# Altium footprint library ROCOS-FOC_V2.0.PcbLib: 17 footprints (part 1 of 2)
Each footprint in its own frame and in the unit in brackets; x right, y up, seen from the top. Pads: shape width x height; smd on the part's side, far side on the other; paste and mask are expansions set on the pad; w line width, h text height; cw(c..) or ccw(c..) is an arc to the next point about the centre after c.
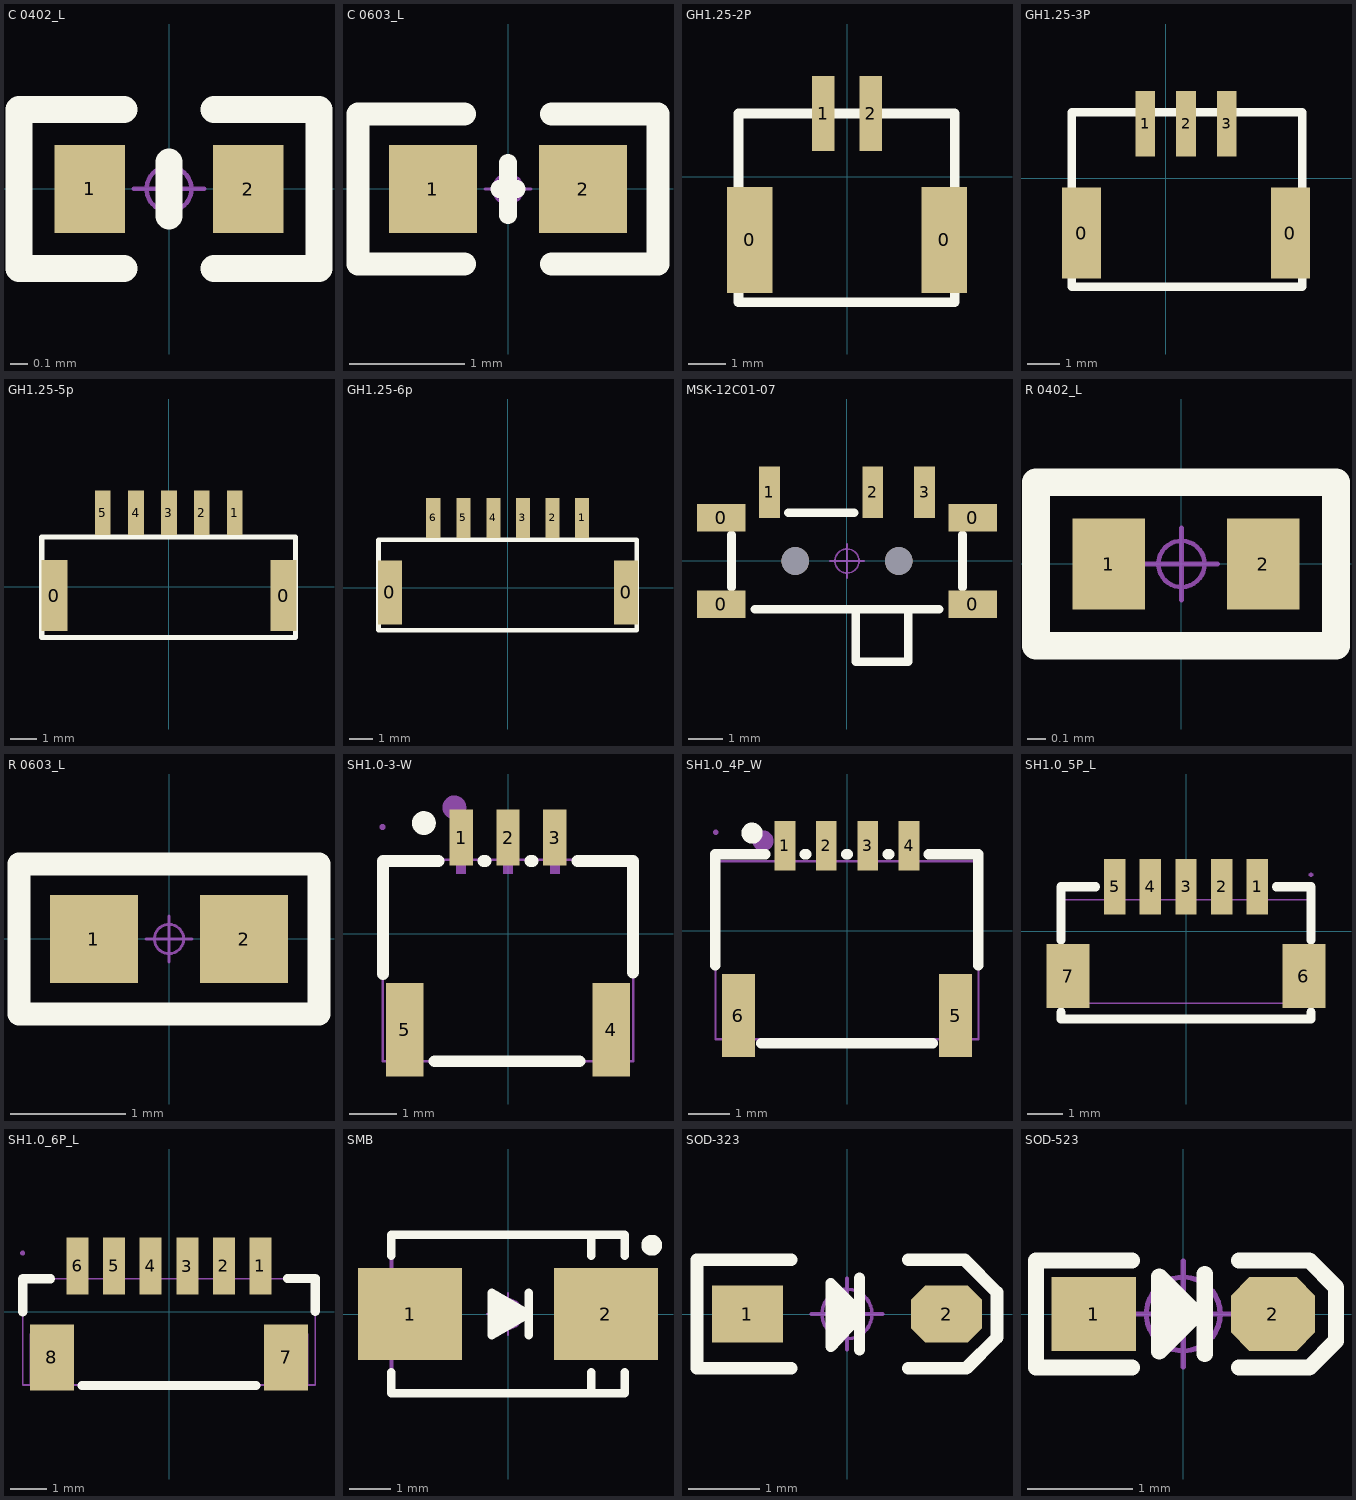
[diagram p0: the footprints below, top view; thin cyan lines are the x and y axes]

## C 0402_L [mm] "无极性贴片电容"
pads (2):
  rect 0.4x0.5 smd: 1(-0.45,0) 2(0.45,0)
Top Overlay:
  lines w0.152: -0.254,-0.45 -0.85,-0.45 ; -0.254,0.45 -0.85,0.45 -0.85,-0.45 ; 0,-0.152 0,0.152 ; 0.254,-0.45 0.85,-0.45 0.85,0.45 0.254,0.45 ; -0.85,-0.45 -0.85,-0.45
Mechanical 15:
  circle w0.025: c0,0 r0.127
  lines w0.025: -0.2,0 0.2,0 ; 0,-0.2 0,0.2
3D body "C 0402.STEP": height 0.53, standoff 0.01, extent -0.5,-0.26 0.5,0.26

## C 0603_L [mil] "无极性贴片电容"
pads (2):
  rect 30x30 smd: 1(-25.59,0) 2(25.59,0)
Top Overlay:
  lines w6: -3,0 0,0 3,0 ; 0,-9 0,9
  lines w8: -15,-25.59 -51.18,-25.59 -51.18,25.59 -15,25.59 ; 15,-25.59 51.18,-25.59 51.18,25.59 15,25.59
Mechanical 15:
  circle w1: c0,0 r5
  lines w1: -7.87,0 7.87,0 ; 0,-7.87 0,7.87
3D body "C 0603.STEP": height 31.89, standoff -0.39, extent -31.5,-16.14 31.5,16.14

## GH1.25-2P [mm]
pads (4):
  rect 1.2x2.8 smd: 0(-2.575,-1.675) 0(2.575,-1.675)
  rect 0.6x2 smd: 1(-0.625,1.675) 2(0.625,1.675)
Top Overlay:
  lines w0.254: -2.875,-3.326 2.857,-3.326 2.857,1.675 -2.875,1.675 -2.875,-3.326
3D body: height 5, standoff 0, extent -2.921,-3.429 2.921,0.254

## GH1.25-3P [mm]
pads (5):
  rect 1.2x2.8 smd: 0(-2.575,-1.675) 0(3.825,-1.675)
  rect 0.6x2 smd: 1(-0.625,1.675) 2(0.625,1.675) 3(1.875,1.675)
Top Overlay:
  lines w0.254: -2.875,-3.326 4.191,-3.326 4.191,2.032 -2.875,2.032 -2.875,-3.326
3D body: height 5, standoff 0, extent -2.921,-3.302 4.318,0.127

## GH1.25-5p [mm]
height 2.65
pads (7):
  rect 1x2.7 smd: 0(-4.343,-0.33) 0(4.369,-0.33)
  rect 0.6x1.7 smd: 1(2.511,2.819) 2(1.261,2.819) 3(0.011,2.819) 4(-1.239,2.819) 5(-2.509,2.819)
Top Overlay:
  lines w0.2: -4.826,-1.93 4.826,-1.93 4.826,1.9 -4.826,1.9 -4.826,-1.93

## GH1.25-6p [mm]
height 2.65
pads (8):
  rect 1x2.7 smd: 0(-4.978,-0.203) 0(5.004,-0.203)
  rect 0.6x1.7 smd: 1(3.146,2.946) 2(1.896,2.946) 3(0.646,2.946) 4(-0.604,2.946) 5(-1.874,2.946) 6(-3.144,2.946)
Top Overlay:
  lines w0.2: -4.191,-1.803 5.461,-1.803 5.461,2.027 -4.191,2.027 ; 4.191,-1.803 -5.461,-1.803 -5.461,2.027 4.191,2.027

## MSK-12C01-07 [mm] "6.7*2.8*1.5mm(长宽高）"
pads (9):
  rect 1.4x0.8 smd: 0(-3.65,-1.25) 0(-3.65,1.25) 0(3.65,1.25) 0(3.65,-1.25)
  rect 0.6x1.5 smd: 1(-2.25,1.996) 2(0.75,1.996) 3(2.25,1.996)
  round 0.8 hole 0.8: " "(-1.5,0) " "(1.5,0)
Top Overlay:
  lines w0.254: -3.35,-0.762 -3.35,0.762 ; -2.667,-1.397 2.667,-1.397 ; -1.699,1.397 0.206,1.397 ; 0.254,-1.4 0.254,-2.921 1.778,-2.921 1.778,-1.4 ; 3.35,-0.762 3.35,0.762
Mechanical 15:
  circle w0.05: c0,0 r0.35
  lines w0.05: -0.5,0 0.5,0 ; 0,-0.5 0,0.5
3D body "MSK-12C01-07.STEP": height 1.5, standoff -0.5, extent -3.92,-2.9 3.92,2.4

## R 0402_L [mm] "1/16W贴片电阻"
pads (2):
  rect 0.4x0.5 smd: 1(-0.4,0) 2(0.45,0)
Top Overlay:
  lines w0.152: -0.8,-0.45 0.85,-0.45 0.85,0.45 -0.8,0.45 -0.8,-0.45
Mechanical 15:
  circle w0.025: c0,0 r0.127
  lines w0.025: -0.2,0 0.2,0 ; 0,-0.2 0,0.2
3D body "R 0402.STEP": height 0.3, standoff 0, extent -0.5,-0.25 0.5,0.25

## R 0603_L [mil] "1/10W贴片电阻"
pads (2):
  rect 30x30 smd: 1(-25.59,0) 2(25.59,0)
Top Overlay:
  lines w8: -51.18,-25.59 51.18,-25.59 51.18,25.59 -51.18,25.59 -51.18,-25.59
Mechanical 15:
  circle w1: c0,0 r5
  lines w1: -7.87,0 7.87,0 ; 0,-7.87 0,7.87
3D body "R 0603.STEP": height 15.79, standoff -0.13, extent -31.49,-15.74 31.5,15.75

## SH1.0-3-W [mm]
pads (5):
  rect 0.5x1.2 smd mask+0.05: 1(-1,2.05) 2(0,2.05) 3(1,2.05)
  rect 0.8x2 smd mask+0.05: 4(2.2,-2.05) 5(-2.2,-2.05)
Top Overlay:
  circle w0.254: c-1.794,2.358 r0.127
  lines w0.254: -2.667,-0.862 -2.667,1.551 -1.481,1.551 ; -1.569,-2.722 1.524,-2.722 ; -0.519,1.551 -0.481,1.551 ; 0.481,1.551 0.519,1.551 ; 1.481,1.551 2.667,1.551 2.667,-0.829
Mechanical 6:
  circle w0.254: c-1.143,2.694 r0.127
Mechanical 15:
  region: 0.9,2.278 1.1,2.278 1.1,1.278 0.9,1.278
  region: -0.1,2.278 0.1,2.278 0.1,1.278 -0.1,1.278
  region: -1.1,2.278 -0.9,2.278 -0.9,1.278 -1.1,1.278
  region: 2.05,-1.45 2.35,-1.45 2.35,-2.65 2.05,-2.65
  region: -2.35,-1.45 -2.05,-1.45 -2.05,-2.65 -2.35,-2.65
  region: -2.615,2.278 -2.615,2.303 -2.65,2.338 -2.7,2.338 -2.735,2.303 -2.735,2.278 -2.735,2.253 -2.7,2.218 -2.65,2.218 -2.615,2.253
  lines w0.051: -2.675,-2.722 2.675,-2.722 2.675,1.578 -2.675,1.578 -2.675,-2.722

## SH1.0_4P_W [mm]
pads (6):
  rect 0.5x1.2 smd mask+0.05: 1(-1.5,2.05) 2(-0.5,2.05) 3(0.5,2.05) 4(1.5,2.05)
  rect 0.8x2 smd mask+0.05: 5(2.625,-2.05) 6(-2.625,-2.05)
Top Overlay:
  circle w0.254: c-2.294,2.358 r0.127
  lines w0.254: -3.183,-0.834 -3.183,1.85 -1.981,1.85 ; -2.069,-2.722 2.069,-2.722 ; -1.019,1.85 -0.981,1.85 ; -0.019,1.85 0.019,1.85 ; 0.981,1.85 1.019,1.85 ; 1.981,1.85 3.167,1.85 3.167,-0.829
Mechanical 6:
  circle w0.254: c-2.03,2.17 r0.127
Mechanical 15:
  region: -3.115,2.378 -3.115,2.403 -3.15,2.438 -3.2,2.438 -3.235,2.403 -3.235,2.378 -3.235,2.353 -3.2,2.318 -3.15,2.318 -3.115,2.353
  region: 1.4,2.378 1.6,2.378 1.6,1.578 1.4,1.578
  region: 0.4,2.378 0.6,2.378 0.6,1.578 0.4,1.578
  region: -0.6,2.378 -0.4,2.378 -0.4,1.578 -0.6,1.578
  region: -1.6,2.378 -1.4,2.378 -1.4,1.578 -1.6,1.578
  region: 2.525,-1.622 2.725,-1.622 2.725,-2.622 2.525,-2.622
  region: -2.725,-1.622 -2.525,-1.622 -2.525,-2.622 -2.725,-2.622
  lines w0.051: -3.175,-2.622 -3.175,1.678 3.175,1.678 3.175,-2.622 -3.175,-2.622

## SH1.0_5P_L [mm]
pads (7):
  rect 0.6x1.55 smd mask+0.051: 1(2,1.25) 2(1,1.25) 3(0,1.25) 4(-1,1.25) 5(-2,1.25)
  rect 1.2x1.8 smd mask+0.051: 6(3.3,-1.25) 7(-3.3,-1.25)
Top Overlay:
  lines w0.254: -3.5,-2.263 -3.5,-2.45 3.5,-2.45 3.5,-2.263 ; -3.5,-0.237 -3.5,1.25 -2.531,1.25 ; 2.531,1.25 3.5,1.25 3.5,-0.237
Mechanical 15:
  region: 3.56,1.587 3.56,1.612 3.525,1.647 3.475,1.647 3.44,1.612 3.44,1.587 3.44,1.562 3.475,1.527 3.525,1.527 3.56,1.562
  region: -2.1,1.587 -1.9,1.587 -1.9,0.787 -2.1,0.787
  region: -1.1,1.587 -0.9,1.587 -0.9,0.787 -1.1,0.787
  region: -0.1,1.587 0.1,1.587 0.1,0.787 -0.1,0.787
  region: 0.9,1.587 1.1,1.587 1.1,0.787 0.9,0.787
  region: 1.9,1.587 2.1,1.587 2.1,0.787 1.9,0.787
  region: -3.2,-0.55 -2.9,-0.55 -2.9,-1.95 -3.2,-1.95
  region: 2.85,-0.55 3.15,-0.55 3.15,-1.95 2.85,-1.95
  lines w0.051: -3.5,-2.014 -3.5,0.886 3.5,0.886 3.5,-2.014 -3.5,-2.014

## SH1.0_6P_L [mm]
pads (8):
  rect 0.6x1.55 smd mask+0.051: 1(2.499,1.251) 2(1.499,1.251) 3(0.501,1.249) 4(-0.501,1.251) 5(-1.501,1.251) 6(-2.501,1.251)
  rect 1.2x1.8 smd mask+0.051: 7(3.201,-1.251) 8(-3.201,-1.251)
Top Overlay:
  lines w0.254: -4,0 -4,0.9 -3.24,0.9 ; -2.38,-2.02 2.38,-2.02 ; 3.241,0.911 4.001,0.911 4.001,0.011
Mechanical 15:
  region: -3.801,-0.6 -3.001,-0.6 -3.001,-2 -3.801,-2
  region: 3.001,-0.6 3.801,-0.6 3.801,-2 3.001,-2
  region: 2.399,1.6 2.599,1.6 2.599,0.85 2.399,0.85
  region: 1.399,1.6 1.599,1.6 1.599,0.85 1.399,0.85
  region: 0.401,1.6 0.601,1.6 0.601,0.85 0.401,0.85
  region: -0.601,1.6 -0.401,1.6 -0.401,0.85 -0.601,0.85
  region: -1.601,1.6 -1.401,1.6 -1.401,0.85 -1.601,0.85
  region: -2.601,1.6 -2.401,1.6 -2.401,0.85 -2.601,0.85
  region: -3.94,1.6 -3.94,1.625 -3.975,1.66 -4.025,1.66 -4.06,1.625 -4.06,1.6 -4.06,1.575 -4.025,1.54 -3.975,1.54 -3.94,1.575
  lines w0.051: -4,-2 -4,0.9 4,0.9 4,-2 -4,-2

## SMB [mm] "4.7*3.9*2.2mm(长宽高，不包括引脚）"
height 2.4
pads (2):
  rect 2.5x2.2 smd: 1(-2.35,0) 2(2.35,0)
Top Overlay:
  circle w0.25: c3.45,1.65 r0.125
  lines w0.2: -2.8,-1.4 -2.8,-1.9 2.8,-1.9 2.8,-1.4 ; -2.8,1.4 -2.8,1.9 2.8,1.9 2.8,1.4 ; 2,-1.9 2,-1.4 ; 2,1.4 2,1.9
  lines w0.203: 0.5,-0.508 0.5,0.508 ; -0.389,-0.508 0.5,0 -0.389,0.508 -0.389,-0.508
  lines w0.254: -0.254,0 0.279,0 ; 0.279,0 -0.229,-0.305 -0.229,0.279 0.279,0
Mechanical 13:
  lines w0.1: 2.8,-1.9 -2.8,-1.9 -2.8,1.9 2.8,1.9
Mechanical 15:
  circle w0.05: c0,0 r0.35
  lines w0.05: -0.5,0 0.5,0 ; 0,-0.5 0,0.5
3D body "SMB.STEP": height 2.35, standoff 0.04, extent -2.629,-1.8 2.675,1.8

## SOD-323 [mm] "1.8x1.3X0.9mm（长宽高，不包括引脚）"
pads (2):
  rect 1x0.8 smd: 1(-1.4,0)
  oct 1x0.8 smd: 2(1.4,0)
Top Overlay:
  lines w0.152: 0.178,-0.508 0.178,0.508 ; 0.178,-0.025 -0.229,-0.457 -0.229,0.432 0.178,0.025
  lines w0.178: -0.787,-0.762 -2.108,-0.762 -2.108,0.762 -0.787,0.762 ; 0.864,-0.762 1.676,-0.762 2.108,-0.33 2.108,0.305 1.651,0.762 0.864,0.762
  lines w0.254: -0.127,0.254 -0.152,-0.178 0.025,-0.025 -0.025,0.127
Mechanical 15:
  circle w0.05: c0,0 r0.35
  lines w0.05: -0.5,0 0.5,0 ; 0,-0.5 0,0.5
3D body "SOD-323.STEP": height 1, standoff 0.04, extent -1.337,-0.631 1.311,0.669

## SOD-523 [mm] "1.2x0.8X0.6mm（长宽高，不包括引脚）"
pads (2):
  rect 0.8x0.7 smd: 1(-0.85,0)
  oct 0.8x0.7 smd: 2(0.85,0)
Top Overlay:
  rectangle: -0.178,-0.178 0,0.178
  lines w0.152: -0.488,-0.508 -1.397,-0.508 -1.397,0.508 -0.488,0.508 ; -0.127,0 0.127,0 ; 0.203,-0.381 0.203,0.381 ; 0.528,-0.508 1.194,-0.508 1.448,-0.254 1.448,0.254 1.194,0.508 0.528,0.508 ; 0.127,0 -0.229,-0.356 -0.229,0.356 0.127,0
Mechanical 15:
  circle w0.05: c0,0 r0.35
  lines w0.05: -0.5,0 0.5,0 ; 0,-0.5 0,0.5
3D body "SOD-523.STEP": height 0.65, standoff 0.05, extent -0.8,-0.4 0.8,0.4